# Altium schematic symbol library LC709203F.SchLib: 1 symbol
Pins are listed as number, name and electrical type; pins without a type are passive.

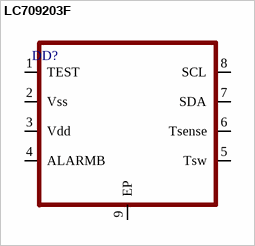
[diagram p0: symbol LC709203F]

## LC709203F
designator DD?
pins: 1 TEST, 2 Vss, 3 Vdd, 4 ALARMB, 5 Tsw, 6 Tsense, 7 SDA, 8 SCL, 9 EP